# Altium schematic symbol library CTS Electronics Rotary Pot.SchLib: 1 symbol
Pins are listed as number, name and electrical type; pins without a type are passive.

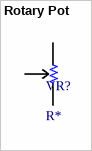
[diagram p0: symbol Rotary Pot]

## Rotary Pot
designator VR?, comment R*
Manufacturer: CTS Electronics; Manufacturer ID: 296UD103B1N; Max Resistance: 10k; Tolerance: 20%
footprint Rotary Pot
pins: 1, 2, 3